# Altium integrated library Mux.IntLib: 5 symbols
Pins are listed as number, name and electrical type; pins without a type are passive.

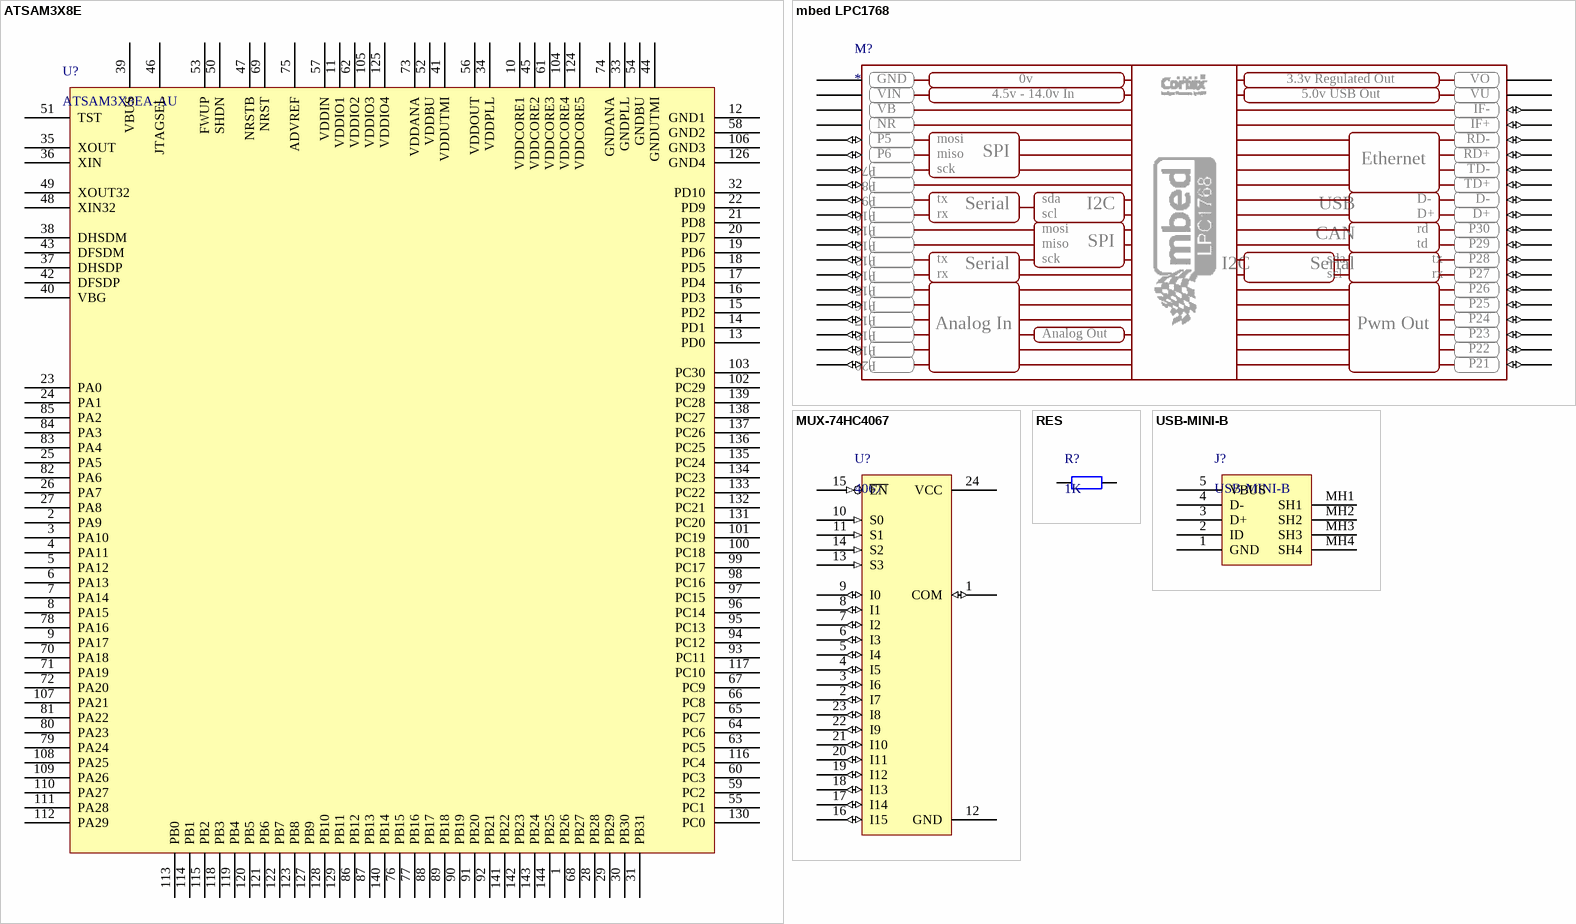
[diagram p0: symbols ATSAM3X8E to USB-MINI-B]

## ATSAM3X8E
designator U?, comment ATSAM3X8EA-AU
ATSAM3X8EA-AU ARM CORTEX M3 Microcontroller
footprint LQFP144_M (Thin QFP, 144-Leads, Body 20x20mm, Pitch 0.5mm, IPC Low Density)
pins: 1 PB26, 2 PA9, 3 PA10, 4 PA11, 5 PA12, 6 PA13, 7 PA14, 8 PA15, 9 PA17, 10 VDDCORE1 (power), 11 VDDIO1 (power), 12 GND1 (power), 13 PD0, 14 PD1, 15 PD2, 16 PD3, 17 PD4, 18 PD5, 19 PD6, 20 PD7, 21 PD8, 22 PD9, 23 PA0, 24 PA1, 25 PA5, 26 PA7, 27 PA8, 28 PB28, 29 PB29, 30 PB30, 31 PB31, 32 PD10, 33 GNDPLL (power), 34 VDDPLL (power), 35 XOUT, 36 XIN, 37 DHSDP, 38 DHSDM, 39 VBUS (power), 40 VBG, 41 VDDUTMI (power), 42 DFSDP, 43 DFSDM, 44 GNDUTMI (power), 45 VDDCORE2 (power), 46 JTAGSEL, 47 NRSTB, 48 XIN32, 49 XOUT32, 50 SHDN, 51 TST, 52 VDDBU (power), 53 FWUP, 54 GNDBU (power), 55 PC1, 56 VDDOUT (power), 57 VDDIN (power), 58 GND2 (power), 59 PC2, 60 PC3, 61 VDDCORE3 (power), 62 VDDIO2 (power), 63 PC5, 64 PC6, 65 PC7, 66 PC8, 67 PC9, 68 PB27, 69 NRST, 70 PA18, 71 PA19, 72 PA20, 73 VDDANA (power), 74 GNDANA (power), 75 ADVREF, 76 PB15, 77 PB16, 78 PA16, 79 PA24, 80 PA23, 81 PA22, 82 PA6, 83 PA4, 84 PA3, 85 PA2, 86 PB12, 87 PB13, 88 PB17, 89 PB18, 90 PB19, 91 PB20, 92 PB21, 93 PC11, 94 PC12, 95 PC13, 96 PC14, 97 PC15, 98 PC16, 99 PC17, 100 PC18, 101 PC19, 102 PC29, 103 PC30, 104 VDDCORE4 (power), 105 VDDIO3 (power), 106 GND3 (power), 107 PA21, 108 PA25, 109 PA26, 110 PA27, 111 PA28, 112 PA29, 113 PB0, 114 PB1, 115 PB2, 116 PC4, 117 PC10, 118 PB3, 119 PB4, 120 PB5, 121 PB6, 122 PB7, 123 PB8, 124 VDDCORE5 (power), 125 VDDIO4 (power), 126 GND4 (power), 127 PB9, 128 PB10, 129 PB11, 130 PC0, 131 PC20, 132 PC21, 133 PC22, 134 PC23, 135 PC24, 136 PC25, 137 PC26, 138 PC27, 139 PC28, 140 PB14, 141 PB22, 142 PB23, 143 PB24, 144 PB25

## mbed LPC1768
designator M?
footprint DIP40-LARGE
pins: 1 GND (power), 2 VIN (power), 3 VB (power), 4 NR (power), 5 P5 (io), 6 P6 (io), 7 P7 (io), 8 P8 (io), 9 P9 (io), 10 P10 (io), 11 P11 (io), 12 P12 (io), 13 P13 (io), 14 P14 (io), 15 P15 (io), 16 P16 (io), 17 P17 (io), 18 P18 (io), 19 P19 (io), 20 P20 (io), 21 P21 (io), 22 P22 (io), 23 P23 (io), 24 P24 (io), 25 P25 (io), 26 P26 (io), 27 P27 (io), 28 P28 (io), 29 P29 (io), 30 P30 (io), 31 D+ (io), 32 D- (io), 33 TD+ (io), 34 TD- (io), 35 RD+ (io), 36 RD- (io), 37 IF+ (io), 38 IF- (io), 39 VU (power), 40 VO (power)
text: 0v; 3.3v Regulated Out; 4.5v - 14.0v In; 5.0v USB Out; mosi; miso; SPI; Ethernet; sck; tx; sda; Serial; I2C; USB; rx; scl; rd; CAN; td; Analog In; Pwm Out; Analog Out

## MUX-74HC4067
designator U?, comment 4067
MUX-74HC4067
footprint SSOP-24 (SOP, 24-Leads, Body 8,5x5,6mm (max), Pitch 0,65mm, IPC Medium Density)
pins: 1 COM (io), 2 I7 (io), 3 I6 (io), 4 I5 (io), 5 I4 (io), 6 I3 (io), 7 I2 (io), 8 I1 (io), 9 I0 (io), 10 S0 (in), 11 S1 (in), 12 GND (power), 13 S3 (in), 14 S2 (in), 15 ~{EN} (in), 16 I15 (io), 17 I14 (io), 18 I13 (io), 19 I12 (io), 20 I11 (io), 21 I10 (io), 22 I9 (io), 23 I8 (io), 24 VCC (power)

## RES
designator R?, comment 1K
footprint RES1206 (Chip Resistor, 2-Leads, Body 3,1x1,6mm, IPC Medium Density)
pins: 1, 2

## USB-MINI-B
designator J?
USB Mini type B Horizontal SMD
footprint USB-MINI-B (USB MINI TYPE B connector)
pins: 1 GND (power), 2 ID, 3 D+, 4 D-, 5 VBUS (power), MH1 SH1 (power), MH2 SH2 (power), MH3 SH3 (power), MH4 SH4 (power)